# Altium integrated library lm2596 module.IntLib: 1 symbol
Pins are listed as number, name and electrical type; pins without a type are passive.

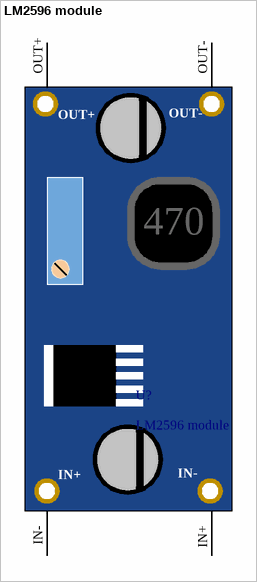
[diagram p0: symbol LM2596 module]

## LM2596 module
designator U?
footprint LM2596 module
pins: IN+, IN-, OUT+ VB, OUT-
text: 470